# Altium footprint library Resistors.PcbLib: 33 footprints (part 2 of 3)
Each footprint in its own frame and in the unit in brackets; x right, y up, seen from the top. Pads: shape width x height; smd on the part's side, far side on the other; paste and mask are expansions set on the pad; w line width, h text height; cw(c..) or ccw(c..) is an arc to the next point about the centre after c.
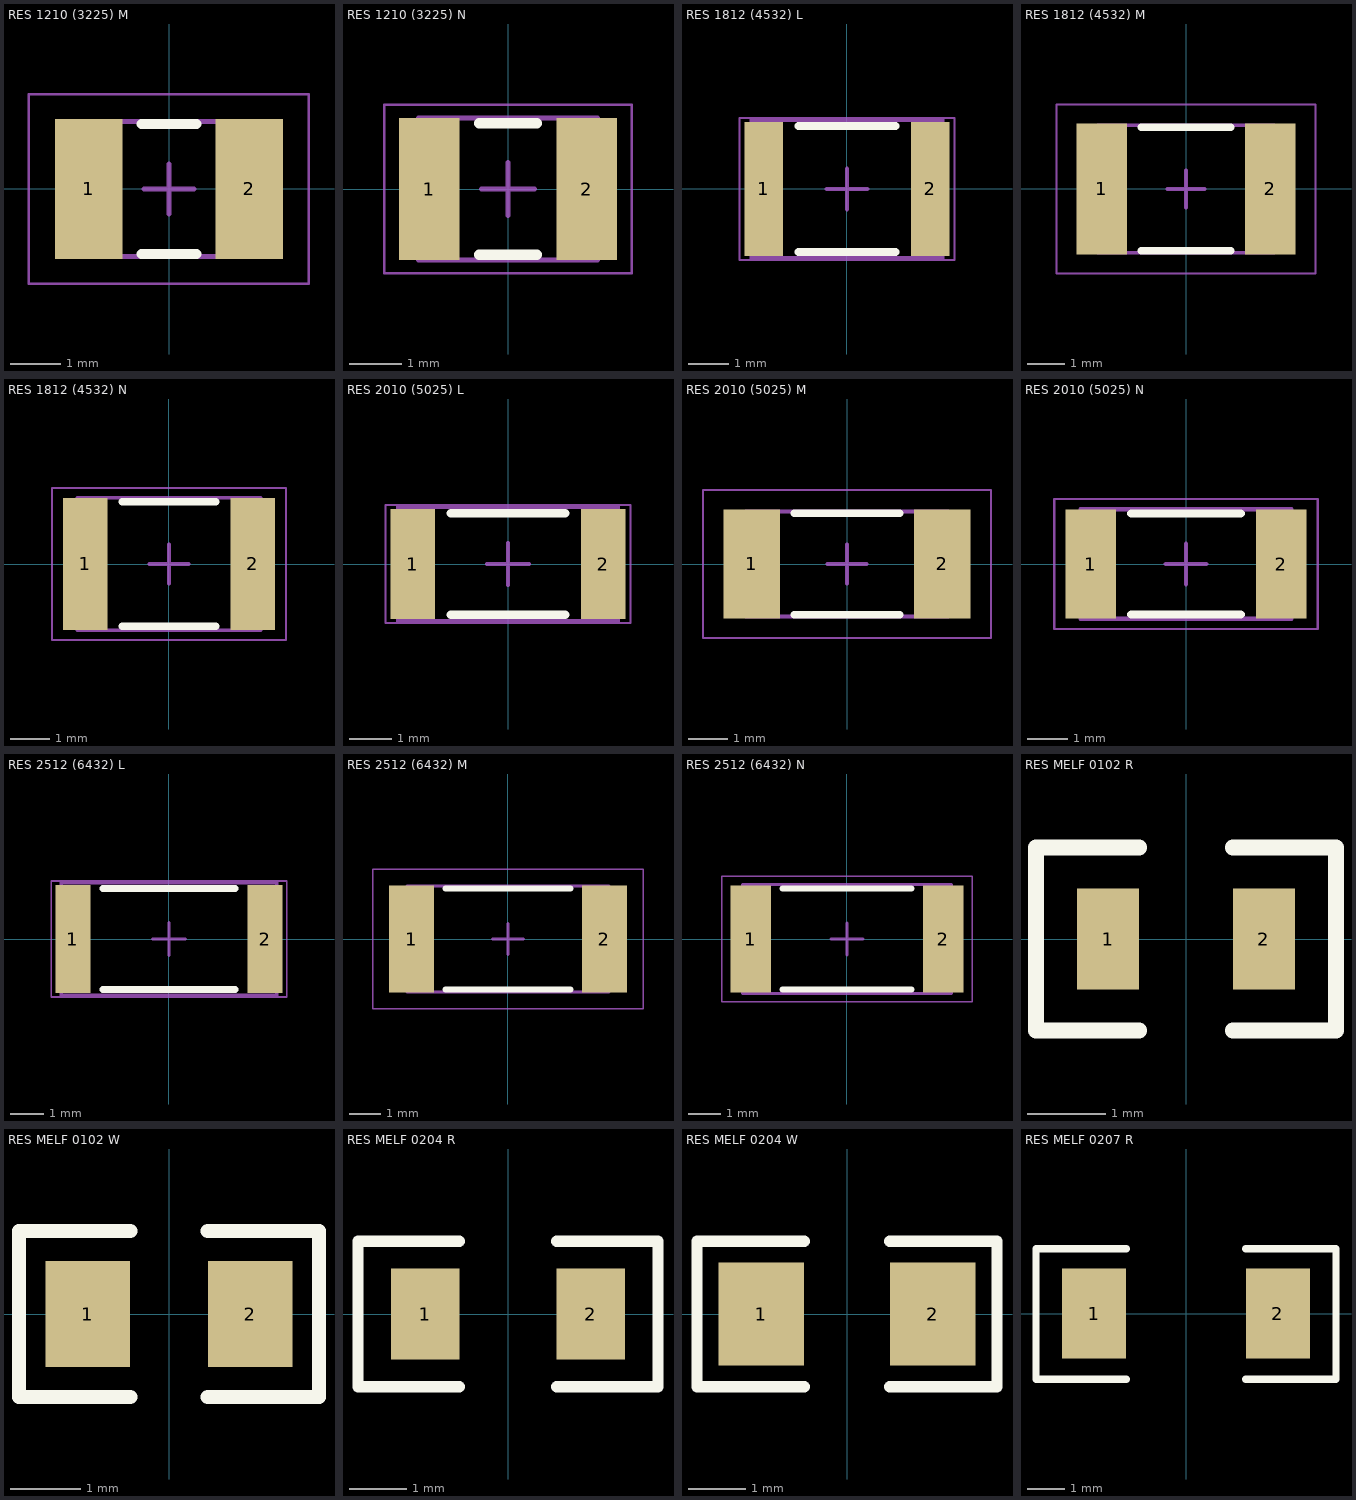
[diagram p1: the footprints below, top view; thin cyan lines are the x and y axes]

## RES 1210 (3225) M [mm] "Chip Resistor, Body 3.2x2.5mm, IPC Low Density"
height 0.71
pads (2):
  rect 1.35x2.8 smd: 1(-1.6,0) 2(1.6,0)
Top Overlay:
  lines w0.2: -0.55,-1.3 0.55,-1.3 ; -0.55,1.3 0.55,1.3
Mechanical 13:
  lines w0.1: -1.7,-1.35 1.7,-1.35 1.7,1.35 -1.7,1.35 -1.7,-1.35
Mechanical 15:
  lines w0.05: -2.8,-1.9 2.8,-1.9 2.8,1.9 -2.8,1.9 -2.8,-1.9
  lines w0.1: -0.5,0 0.5,0 ; 0,-0.5 0,0.5
3D body "User Library-RES_SMD-1 (1).step": height 0.7, standoff 0, extent -1.7,-1.35 1.7,1.35

## RES 1210 (3225) N [mm] "Chip Resistor, Body 3.2x2.5mm, IPC Medium Density"
height 0.71
pads (2):
  rect 1.15x2.7 smd: 1(-1.5,0) 2(1.5,0)
Top Overlay:
  lines w0.2: -0.55,-1.25 0.55,-1.25 ; -0.55,1.25 0.55,1.25
Mechanical 13:
  lines w0.1: -1.7,-1.35 -1.7,1.35 1.7,1.35 1.7,-1.35 -1.7,-1.35
Mechanical 15:
  lines w0.05: -2.35,-1.6 -2.35,1.6 2.35,1.6 2.35,-1.6 -2.35,-1.6
  lines w0.1: -0.5,0 0.5,0 ; 0,-0.5 0,0.5
3D body "User Library-RES_SMD-1 (1).step": height 0.7, standoff 0, extent -1.7,-1.35 1.7,1.35

## RES 1812 (4532) L [mm] "Chip Resistor, Body 4.5x3.2mm, IPC High Density"
height 0.71
pads (2):
  rect 0.95x3.3 smd: 1(-2.05,0) 2(2.05,0)
Top Overlay:
  lines w0.2: -1.2,-1.55 1.2,-1.55 ; -1.2,1.55 1.2,1.55
Mechanical 13:
  lines w0.1: -2.35,-1.7 -2.35,1.7 2.35,1.7 2.35,-1.7 -2.35,-1.7
Mechanical 15:
  lines w0.05: -2.65,-1.75 -2.65,1.75 2.65,1.75 2.65,-1.75 -2.65,-1.75
  lines w0.1: -0.5,0 0.5,0 ; 0,-0.5 0,0.5
3D body "User Library-RES_SMD-1 (2).step": height 0.7, standoff 0, extent -2.35,-1.7 2.35,1.7

## RES 1812 (4532) M [mm] "Chip Resistor, Body 4.5x3.2mm, IPC Low Density"
height 0.71
pads (2):
  rect 1.35x3.5 smd: 1(-2.25,0) 2(2.25,0)
Top Overlay:
  lines w0.2: -1.2,-1.65 1.2,-1.65 ; -1.2,1.65 1.2,1.65
Mechanical 13:
  lines w0.1: -2.35,-1.7 -2.35,1.7 2.35,1.7 2.35,-1.7 -2.35,-1.7
Mechanical 15:
  lines w0.05: -3.45,-2.25 -3.45,2.25 3.45,2.25 3.45,-2.25 -3.45,-2.25
  lines w0.1: -0.5,0 0.5,0 ; 0,-0.5 0,0.5
3D body "User Library-RES_SMD-1 (2).step": height 0.7, standoff 0, extent -2.35,-1.7 2.35,1.7

## RES 1812 (4532) N [mm] "Chip Resistor, Body 4.5x3.2mm, IPC Medium Density"
height 0.71
pads (2):
  rect 1.15x3.4 smd: 1(-2.15,0) 2(2.15,0)
Top Overlay:
  lines w0.2: -1.2,-1.6 1.2,-1.6 ; -1.2,1.6 1.2,1.6
Mechanical 13:
  lines w0.1: -2.35,-1.7 -2.35,1.7 2.35,1.7 2.35,-1.7 -2.35,-1.7
Mechanical 15:
  lines w0.05: -3,-1.95 -3,1.95 3,1.95 3,-1.95 -3,-1.95
  lines w0.1: -0.5,0 0.5,0 ; 0,-0.5 0,0.5
3D body "User Library-RES_SMD-1 (2).step": height 0.7, standoff 0, extent -2.35,-1.7 2.35,1.7

## RES 2010 (5025) L [mm] "Chip Resistor, Body 5.0x2.5mm, IPC High Density"
height 0.71
pads (2):
  rect 1.05x2.6 smd: 1(-2.25,0) 2(2.25,0)
Top Overlay:
  lines w0.2: -1.35,-1.2 1.35,-1.2 ; -1.35,1.2 1.35,1.2
Mechanical 13:
  lines w0.1: -2.6,-1.35 -2.6,1.35 2.6,1.35 2.6,-1.35 -2.6,-1.35
Mechanical 15:
  lines w0.05: -2.9,-1.4 -2.9,1.4 2.9,1.4 2.9,-1.4 -2.9,-1.4
  lines w0.1: -0.5,0 0.5,0 ; 0,-0.5 0,0.5
3D body "RES2010.stp": height 0.55, standoff 0, extent -2.45,-1.2 2.45,1.2

## RES 2010 (5025) M [mm] "Chip Resistor, Body 5.0x2.5mm, IPC Low Density"
height 0.71
pads (2):
  rect 1.45x2.8 smd: 1(-2.45,0) 2(2.45,0)
Top Overlay:
  lines w0.2: -1.35,-1.3 1.35,-1.3 ; -1.35,1.3 1.35,1.3
Mechanical 13:
  lines w0.1: -2.6,-1.35 2.6,-1.35 2.6,1.35 -2.6,1.35 -2.6,-1.35
Mechanical 15:
  lines w0.05: -3.7,-1.9 3.7,-1.9 3.7,1.9 -3.7,1.9 -3.7,-1.9
  lines w0.1: -0.5,0 0.5,0 ; 0,-0.5 0,0.5
3D body "RES2010.stp": height 0.55, standoff 0, extent -2.45,-1.2 2.45,1.2

## RES 2010 (5025) N [mm] "Chip Resistor, Body 5.0x2.5mm, IPC Medium Density"
height 0.71
pads (2):
  rect 1.25x2.7 smd: 1(-2.35,0) 2(2.35,0)
Top Overlay:
  lines w0.2: -1.35,-1.25 1.35,-1.25 ; -1.35,1.25 1.35,1.25
Mechanical 13:
  lines w0.1: -2.6,-1.35 -2.6,1.35 2.6,1.35 2.6,-1.35 -2.6,-1.35
Mechanical 15:
  lines w0.05: -3.25,-1.6 -3.25,1.6 3.25,1.6 3.25,-1.6 -3.25,-1.6
  lines w0.1: -0.5,0 0.5,0 ; 0,-0.5 0,0.5
3D body "RES2010.stp": height 0.55, standoff 0, extent -2.45,-1.2 2.45,1.2

## RES 2512 (6432) L [mm] "Chip Resistor, Body 6.4x3.2mm, IPC High Density"
height 0.75
pads (2):
  rect 1.05x3.25 smd: 1(-2.9,0) 2(2.9,0)
Top Overlay:
  lines w0.2: -2,-1.525 2,-1.525 ; -2,1.525 2,1.525
Mechanical 13:
  lines w0.1: -3.25,-1.7 3.25,-1.7 3.25,1.7 -3.25,1.7 -3.25,-1.7
Mechanical 15:
  lines w0.05: -3.55,-1.75 3.55,-1.75 3.55,1.75 -3.55,1.75 -3.55,-1.75
  lines w0.1: -0.5,0 0.5,0 ; 0,-0.5 0,0.5
3D body "RES2512.stp": height 0.55, standoff 0, extent -3.15,-1.55 3.15,1.55

## RES 2512 (6432) M [mm] "Chip Resistor, Body 6.4x3.2mm, IPC Low Density"
height 0.75
pads (2):
  rect 1.45x3.45 smd: 1(-3.1,0) 2(3.1,0)
Top Overlay:
  lines w0.2: -2,-1.625 2,-1.625 ; -2,1.625 2,1.625
Mechanical 13:
  lines w0.1: -3.25,-1.7 -3.25,1.7 3.25,1.7 3.25,-1.7 -3.25,-1.7
Mechanical 15:
  lines w0.05: -4.35,-2.25 -4.35,2.25 4.35,2.25 4.35,-2.25 -4.35,-2.25
  lines w0.1: -0.5,0 0.5,0 ; 0,-0.5 0,0.5
3D body "RES2512.stp": height 0.55, standoff 0, extent -3.15,-1.55 3.15,1.55

## RES 2512 (6432) N [mm] "Chip Resistor, Body 6.4x3.2mm, IPC Medium Density"
height 0.75
pads (2):
  rect 1.25x3.35 smd: 1(-3,0) 2(3,0)
Top Overlay:
  lines w0.2: -2,-1.575 2,-1.575 ; -2,1.575 2,1.575
Mechanical 13:
  lines w0.1: -3.25,-1.7 -3.25,1.7 3.25,1.7 3.25,-1.7 -3.25,-1.7
Mechanical 15:
  lines w0.05: -3.9,-1.95 -3.9,1.95 3.9,1.95 3.9,-1.95 -3.9,-1.95
  lines w0.1: -0.5,0 0.5,0 ; 0,-0.5 0,0.5
3D body "RES2512.stp": height 0.55, standoff 0, extent -3.15,-1.55 3.15,1.55

## RES MELF 0102 R [mm] "MELF resistor 0102 reflow soldering"
pads (2):
  rect 0.8x1.3 smd: 1(-1,0) 2(1,0)
Top Overlay:
  lines w0.203: -0.6,-1.175 -1.925,-1.175 -1.925,1.175 -0.6,1.175 ; 0.6,-1.175 1.925,-1.175 1.925,1.175 0.6,1.175
3D body "RESMELF0102.stp": height 1.1, standoff 0, extent -1.099,-0.55 1.099,0.55

## RES MELF 0102 W [mm] "MELF resistor 0102 wave soldering"
pads (2):
  rect 1.2x1.5 smd: 1(-1.15,0) 2(1.15,0)
Top Overlay:
  lines w0.203: -0.55,-1.175 -2.125,-1.175 -2.125,1.175 -0.55,1.175 ; 0.55,-1.175 2.125,-1.175 2.125,1.175 0.55,1.175
3D body "RESMELF0102.stp": height 1.1, standoff 0, extent -1.099,-0.55 1.099,0.55

## RES MELF 0204 R [mm] "MELF resistor 0204 reflow soldering"
pads (2):
  rect 1.2x1.6 smd: 1(-1.45,0) 2(1.45,0)
Top Overlay:
  lines w0.2: -0.85,-1.275 -2.625,-1.275 -2.625,1.275 -0.85,1.275 ; 0.85,-1.275 2.625,-1.275 2.625,1.275 0.85,1.275
3D body "RESMELF0204.stp": height 1.4, standoff 0, extent -1.8,-0.7 1.8,0.7

## RES MELF 0204 W [mm] "MELF resistor 0204 wave soldering"
pads (2):
  rect 1.5x1.8 smd: 1(-1.5,0) 2(1.5,0)
Top Overlay:
  lines w0.2: -0.75,-1.275 -2.625,-1.275 -2.625,1.275 -0.75,1.275 ; 0.75,-1.275 2.625,-1.275 2.625,1.275 0.75,1.275
3D body "RESMELF0204.stp": height 1.4, standoff 0, extent -1.8,-0.7 1.8,0.7

## RES MELF 0207 R [mm] "MELF resistor 0207 reflow soldering"
pads (2):
  rect 1.7x2.4 smd: 1(-2.45,0) 2(2.45,0)
Top Overlay:
  lines w0.2: -1.6,-1.75 -4,-1.75 -4,1.725 -1.6,1.725 ; 1.6,-1.75 4,-1.75 4,1.725 1.6,1.725
3D body "RESMELF0207.stp": height 2.26, standoff 0, extent -2.9,-1.125 2.9,1.131